# EAGLE library part LT1303 (library Pinoccio)
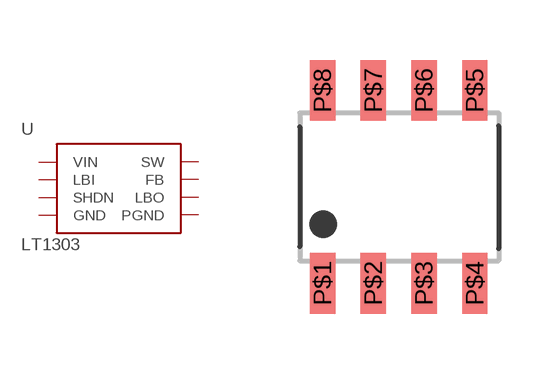
[diagram p16: symbol with the pads of S8; footprint S8]

Designator prefix -

## LT1303S8  [S8]
P$1  GND
P$2  LBO  in
P$3  SHDN  in
P$4  FB  out
P$5  LBI  in
P$6  VIN
P$7  SW
P$8  PGND

## Footprint S8 (pad centres in mm)
smd 0.635 x 1.524: P$1 0.318,0.762; P$2 1.587,0.762; P$3 2.857,0.762; P$4 4.128,0.762; P$5 4.128,5.588; P$6 2.857,5.588; P$7 1.587,5.588; P$8 0.318,5.588